# EAGLE library part PIC18F4550-I/PT (library 029000100  -  gKEagleLibrary)
USB Microcontrollers
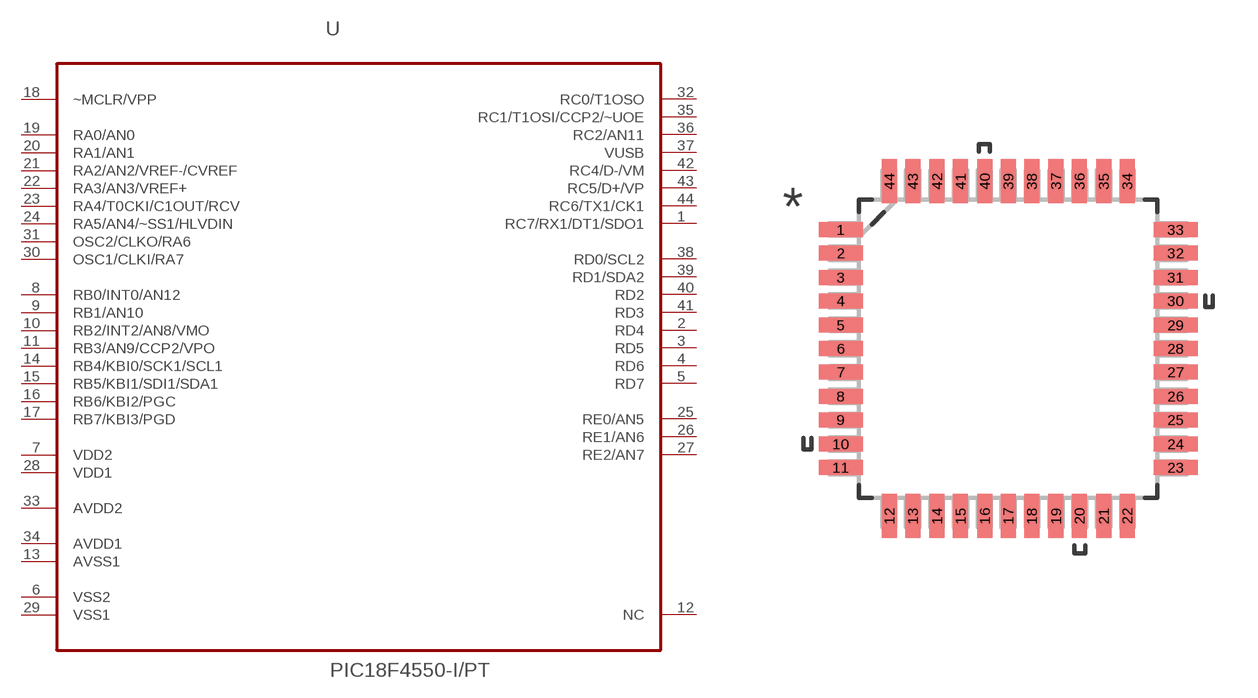
[diagram p23: symbol with the pads of QFP80P1200X1200X120-44N; footprint QFP80P1200X1200X120-44N]

Designator prefix -

## PIC18F4550-I/PT (MPN: PIC18F4550-I/PT; OC_FARNELL: 9321365; OC_NEWARK: 08J9633; PACKAGE: QFP-44; SUPPLIER: Microchip)  [QFP80P1200X1200X120-44N]
1  RC7/RX1/DT1/SDO1
2  RD4
3  RD5
4  RD6
5  RD7
6  VSS2  pwr
7  VDD2  pwr
8  RB0/INT0/AN12
9  RB1/AN10
10  RB2/INT2/AN8/VMO
11  RB3/AN9/CCP2/VPO
12  NC  nc
13  AVSS1  nc
14  RB4/KBI0/SCK1/SCL1
15  RB5/KBI1/SDI1/SDA1
16  RB6/KBI2/PGC
17  RB7/KBI3/PGD
18  ~MCLR/VPP  in
19  RA0/AN0
20  RA1/AN1
21  RA2/AN2/VREF-/CVREF
22  RA3/AN3/VREF+
23  RA4/T0CKI/C1OUT/RCV
24  RA5/AN4/~SS1/HLVDIN
25  RE0/AN5
26  RE1/AN6
27  RE2/AN7
28  VDD1  pwr
29  VSS1  pwr
30  OSC1/CLKI/RA7
31  OSC2/CLKO/RA6
32  RC0/T1OSO
33  AVDD2  nc
34  AVDD1  nc
35  RC1/T1OSI/CCP2/~UOE
36  RC2/AN11
37  VUSB
38  RD0/SCL2
39  RD1/SDA2
40  RD2
41  RD3
42  RC4/D-/VM
43  RC5/D+/VP
44  RC6/TX1/CK1

## Footprint QFP80P1200X1200X120-44N (pad centres in mm)
smd 1.473 x 0.508: 1 -5.613,3.988; 2 -5.613,3.2; 3 -5.613,2.388; 4 -5.613,1.6; 5 -5.613,0.787; 6 -5.613,0; 7 -5.613,-0.787; 8 -5.613,-1.6; 9 -5.613,-2.388; 10 -5.613,-3.2; 11 -5.613,-3.988; 23 5.613,-3.988; 24 5.613,-3.2; 25 5.613,-2.388; 26 5.613,-1.6; 27 5.613,-0.787; 28 5.613,0; 29 5.613,0.787; 30 5.613,1.6; 31 5.613,2.388; 32 5.613,3.2; 33 5.613,3.988
smd 0.508 x 1.473: 12 -3.988,-5.613; 13 -3.2,-5.613; 14 -2.388,-5.613; 15 -1.6,-5.613; 16 -0.787,-5.613; 17 0,-5.613; 18 0.787,-5.613; 19 1.6,-5.613; 20 2.388,-5.613; 21 3.2,-5.613; 22 3.988,-5.613; 34 3.988,5.613; 35 3.2,5.613; 36 2.388,5.613; 37 1.6,5.613; 38 0.787,5.613; 39 0,5.613; 40 -0.787,5.613; 41 -1.6,5.613; 42 -2.388,5.613; 43 -3.2,5.613; 44 -3.988,5.613